# Altium schematic symbol library ALLEGRO A4982 32PIN.SchLib: 1 symbol
Pins are listed as number, name and electrical type; pins without a type are passive.

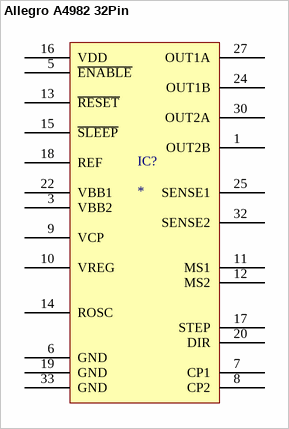
[diagram p0: symbol Allegro A4982 32Pin]

## Allegro A4982 32Pin
designator IC?
pins: 1 OUT2B, 3 VBB2, 5 ~{ENABLE}, 6 GND, 7 CP1, 8 CP2, 9 VCP, 10 VREG, 11 MS1, 12 MS2, 13 ~{RESET}, 14 ROSC, 15 ~{SLEEP}, 16 VDD, 17 STEP, 18 REF, 19 GND, 20 DIR, 22 VBB1, 24 OUT1B, 25 SENSE1, 27 OUT1A, 30 OUT2A, 32 SENSE2, 33 GND